# Altium integrated library FEATHER_M0_BASIC_PROTO.IntLib: 1 symbol
Pins are listed as number, name and electrical type; pins without a type are passive.

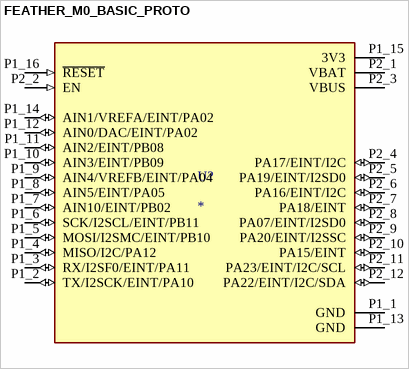
[diagram p0: symbol FEATHER_M0_BASIC_PROTO]

## FEATHER_M0_BASIC_PROTO
designator U?
ATSAMD21G18 Feather M0 Basic Proto SAM D ARMÂ® CortexÂ®-M0+ MCU 32-Bit Embedded Evaluation Board; MF: Adafruit Industries; Value: *; Package: Package; Price: None; MP: Feather M0 Basic Proto; Availability: Unavailable
footprint MODULE_FEATHER_M0_BASIC_PROTO
pins: P1_1 GND (power), P1_2 TX/I2SCK/EINT/PA10 (io), P1_3 RX/I2SF0/EINT/PA11 (io), P1_4 MISO/I2C/PA12 (io), P1_5 MOSI/I2SMC/EINT/PB10 (io), P1_6 SCK/I2SCL/EINT/PB11 (io), P1_7 AIN10/EINT/PB02 (io), P1_8 AIN5/EINT/PA05 (io), P1_9 AIN4/VREFB/EINT/PA04 (io), P1_10 AIN3/EINT/PB09 (io), P1_11 AIN2/EINT/PB08 (io), P1_12 AIN0/DAC/EINT/PA02 (io), P1_13 GND (power), P1_14 AIN1/VREFA/EINT/PA02 (io), P1_15 3V3 (power), P1_16 ~{RESET} (in), P2_1 VBAT (power), P2_2 EN (in), P2_3 VBUS (power), P2_4 PA17/EINT/I2C (io), P2_5 PA19/EINT/I2SD0 (io), P2_6 PA16/EINT/I2C (io), P2_7 PA18/EINT (io), P2_8 PA07/EINT/I2SD0 (io), P2_9 PA20/EINT/I2SSC (io), P2_10 PA15/EINT (io), P2_11 PA23/EINT/I2C/SCL (io), P2_12 PA22/EINT/I2C/SDA (io)